# Altium schematic symbol library DIODE,Schottky,60V,200mA,SOD523.Schlib: 1 symbol
Pins are listed as number, name and electrical type; pins without a type are passive.

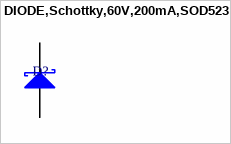
[diagram p0: symbol DIODE,Schottky,60V,200mA,SOD523]

## DIODE,Schottky,60V,200mA,SOD523
designator D?
pins: 1 K, 2 A